# Altium footprint library PCBLib1.PcbLib: 22 footprints (part 1 of 2)
Each footprint in its own frame and in the unit in brackets; x right, y up, seen from the top. Pads: shape width x height; smd on the part's side, far side on the other; paste and mask are expansions set on the pad; w line width, h text height; cw(c..) or ccw(c..) is an arc to the next point about the centre after c.
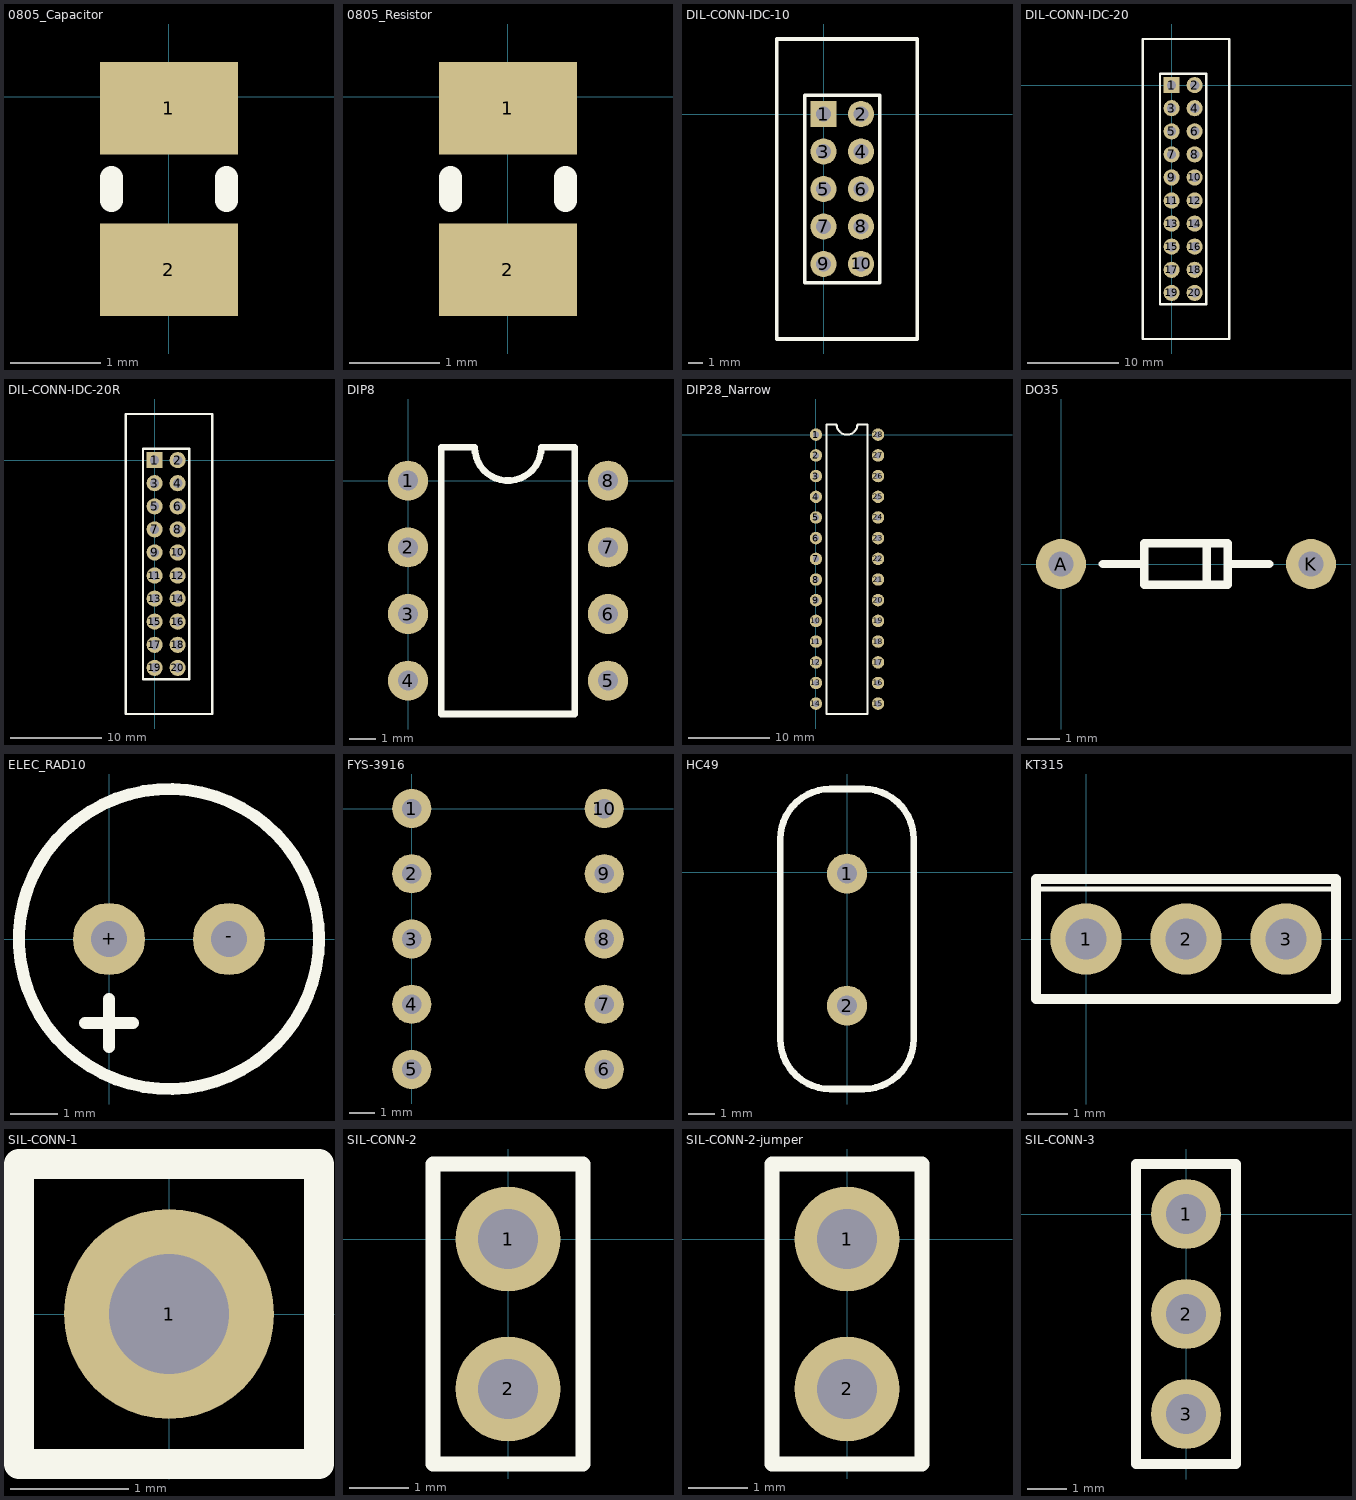
[diagram p0: the footprints below, top view; thin cyan lines are the x and y axes]

## 0805_Capacitor [mil]
pads (2):
  rect 60x40 smd: 1(0,-5) 2(0,-75)
Top Overlay:
  lines w10: -25,-45 -25,-35 ; 25,-45 25,-35
3D body: height 30.79, standoff 0, extent -24.6,-79.37 24.61,-0.63

## 0805_Resistor [mil]
pads (2):
  rect 60x40 smd: 1(0,-5) 2(0,-75)
Top Overlay:
  lines w10: -25,-45 -25,-35 ; 25,-45 25,-35
3D body: height 30.79, standoff 0, extent -24.6,-79.37 24.61,-0.63

## DIL-CONN-IDC-10 [mil]
pads (10):
  rect 70x70 hole 40 square: 1(0,0)
  round 70 hole 40: 2(100,0) 3(0,-100) 4(100,-100) 5(0,-200) 6(100,-200) 7(0,-300) 8(100,-300) 9(0,-400) 10(100,-400)
Top Overlay:
  lines w10: -125,-600 -125,200 250,200 250,-600 -125,-600 ; -50,-450 150,-450 150,50 -50,50 -50,-450
3D body: height 366.14, standoff -122.05, extent -123.23,-599.61 235.04,199.61

## DIL-CONN-IDC-20 [mil]
pads (20):
  rect 70x70 hole 40 square: 1(0,0)
  round 70 hole 40: 2(100,0) 3(0,-100) 4(100,-100) 5(0,-200) 6(100,-200) 7(0,-300) 8(100,-300) 9(0,-400) 10(100,-400) 11(0,-500) 12(100,-500) 13(0,-600) 14(100,-600) 15(0,-700) 16(100,-700) 17(0,-800) 18(100,-800) 19(0,-900) 20(100,-900)
Top Overlay:
  lines w10: -125,-1100 -125,200 250,200 250,-1100 -125,-1100 ; -50,-950 150,-950 150,50 -50,50 -50,-950
3D body: height 372.44, standoff -125.98, extent -125,-1100 237.2,200

## DIL-CONN-IDC-20R [mil]
pads (20):
  rect 70x70 hole 40 square: 1(0,0)
  round 70 hole 40: 2(100,0) 3(0,-100) 4(100,-100) 5(0,-200) 6(100,-200) 7(0,-300) 8(100,-300) 9(0,-400) 10(100,-400) 11(0,-500) 12(100,-500) 13(0,-600) 14(100,-600) 15(0,-700) 16(100,-700) 17(0,-800) 18(100,-800) 19(0,-900) 20(100,-900)
Top Overlay:
  lines w10: -125,-1100 250,-1100 250,200 -125,200 -125,-1100 ; -50,-950 -50,50 150,50 150,-950 -50,-950
3D body: height 364.17, standoff -125.98, extent -12.41,-1100 480.51,200

## DIP8 [mil]
pads (8):
  round 60 hole 30: 1(0,0) 2(0,-100) 3(0,-200) 4(0,-300) 5(300,-300) 6(300,-200) 7(300,-100) 8(300,0)
Top Overlay:
  lines w10: 50,-350 50,50 100,50 ccw(c150,50) 200,50 250,50 250,-350 50,-350
3D body: height 179.92, standoff -150, extent -3.93,-344.08 303.94,46.08

## DIP28_Narrow [mil]
pads (28):
  round 60 hole 30: 1(0,0) 2(0,-100) 3(0,-200) 4(0,-300) 5(0,-400) 6(0,-500) 7(0,-600) 8(0,-700) 9(0,-800) 10(0,-900) 11(0,-1000) 12(0,-1100) 13(0,-1200) 14(0,-1300) 15(300,-1300) 16(300,-1200) 17(300,-1100) 18(300,-1000) 19(300,-900) 20(300,-800) 21(300,-700) 22(300,-600) 23(300,-500) 24(300,-400) 25(300,-300) 26(300,-200) 27(300,-100) 28(300,0)
Top Overlay:
  lines w10: 50,-1350 50,50 100,50 ccw(c150,50) 200,50 250,50 250,-1350 50,-1350
3D body: height 200, standoff -98.03, extent -4.92,-1358.66 304.92,58.66

## DO35 [mil]
pads (2):
  round 60 hole 30: A(0,0) K(300,0)
Top Overlay:
  lines w10: 50,0 100,0 ; 175,-25 175,25 ; 200,0 250,0 ; 100,-25 200,-25 200,25 100,25 100,-25
3D body: height 87.01, standoff -70.87, extent -10.24,-39.76 310.24,39.76

## ELEC_RAD10 [mil]
pads (2):
  round 60 hole 30: +(0,0) -(100,0)
Top Overlay:
  circle w10: c50,0 r125
  lines w10: -20,-70 20,-70 ; 0,-90 0,-50
3D body: height 433.46, standoff -106.3, extent -73.68,-125 173.68,123.03

## FYS-3916 [mil]
pads (10):
  round 60 hole 30: 1(0,0) 2(0,-100) 3(0,-200) 4(0,-300) 5(0,-400) 6(295.28,-400) 7(295.28,-300) 8(295.28,-200) 9(295.28,-100) 10(295.28,0)
3D body: height 275.59, standoff -196.85, extent -41.89,-453.94 340,53.94

## HC49 [mil]
pads (2):
  round 60 hole 30: 1(0,-2) 2(0,-200)
Top Overlay:
  lines w10: -100,-250 ccw(c-25,-250) -25,-325 25,-325 ccw(c25,-250) 100,-250 100,50 ccw(c25,50) 25,125 -25,125 ccw(c-25,50) -100,50 -100,-250
3D body: height 530.92, standoff -77.74, extent -91.44,-318.11 92.52,121.75

## KT315 [mil]
pads (3):
  round 70 hole 40: 1(0,0) 2(98.43,0) 3(196.85,0)
Top Overlay:
  lines w5: -49.21,49.21 246.06,49.21
  lines w10: -49.21,-59.06 -49.21,59.06 246.06,59.06 246.06,-59.06 -49.21,-59.06
3D body: height 255.91, standoff -177.17, extent -43.17,-58.92 240.02,58.92

## SIL-CONN-1 [mil]
pads (1):
  round 70 hole 40: 1(0,0)
Top Overlay:
  lines w10: -50,-50 -50,50 50,50 50,-50 -50,-50
3D body: height 336.22, standoff -118.11, extent -50,-49.02 50,49.02

## SIL-CONN-2 [mil]
pads (2):
  round 70 hole 40: 1(0,0) 2(0,-100)
Top Overlay:
  lines w10: -50,-150 50,-150 50,50 -50,50 -50,-150
3D body: height 336.22, standoff -118.11, extent -48.03,-150 50,50

## SIL-CONN-2-jumper [mil]
pads (2):
  round 70 hole 40: 1(0,0) 2(0,-100)
Top Overlay:
  lines w10: -50,-150 50,-150 50,50 -50,50 -50,-150
3D body: height 336.22, standoff -118.11, extent -48.03,-150 50,50
3D body: height 356.14, standoff 123.86, extent -50,-150 50,50

## SIL-CONN-3 [mil]
pads (3):
  round 70 hole 40: 1(0,0) 2(0,-100) 3(0,-200)
Top Overlay:
  lines w10: -50,-250 50,-250 50,50 -50,50 -50,-250
3D body: height 336.22, standoff -118.11, extent -49.01,-250 49.01,50